# EAGLE library part TPS62840DLCR (library TexasInstruments)
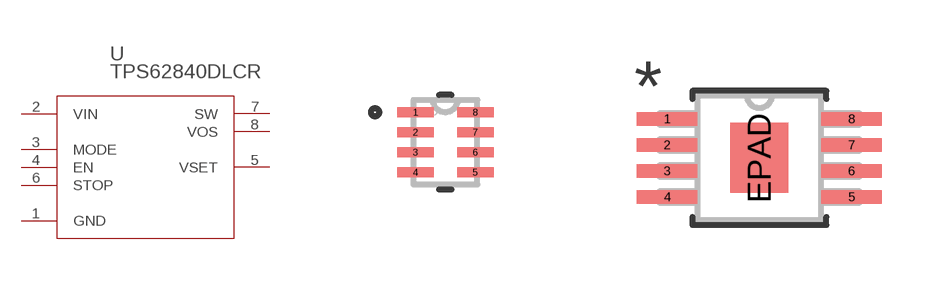
[diagram p14: symbol with the pads of VSON8_2P1X1P6_TEX-M; footprints VSON8_2P1X1P6_TEX-M, HVSSOP8_DGR_TEX-M]

Designator prefix U

## TPS62840DLCRVSON8 (COPYRIGHT: Copyright (C) 2023 Ultra Librarian. All rights reserved.; MANUFACTURER_PART_NUMBER: TPS62840DLCR; MFR_NAME: Texas Instruments)  [VSON8_2P1X1P6_TEX-M]
1  GND  pas
2  VIN  pas
3  MODE  pas
4  EN  pas
5  VSET  pas
6  STOP  pas
7  SW  pas
8  VOS  pas

## TPS62840DLCRSOP8  [HVSSOP8_DGR_TEX-M]
Pads as for VSON8_2P1X1P6_TEX-M

## Footprint VSON8_2P1X1P6_TEX-M (pad centres in mm)
smd 0.914 x 0.254: 1 -0.749,0.75; 2 -0.749,0.25; 3 -0.749,-0.25; 4 -0.749,-0.75; 5 0.749,-0.75; 6 0.749,-0.25; 7 0.749,0.25; 8 0.749,0.75

## Footprint HVSSOP8_DGR_TEX-M (pad centres in mm)
smd 1.511 x 0.33: 1 -2.305,0.975; 2 -2.305,0.325; 3 -2.305,-0.325; 4 -2.305,-0.975; 5 2.305,-0.975; 6 2.305,-0.325; 7 2.305,0.325; 8 2.305,0.975
smd 1.448 x 1.753: EPAD 0,0